# EAGLE library part DAC16 (library 1A-meinLib)
16-Bit High Speed Current-Output DAC, 5mA, 500ns, Analog Devices
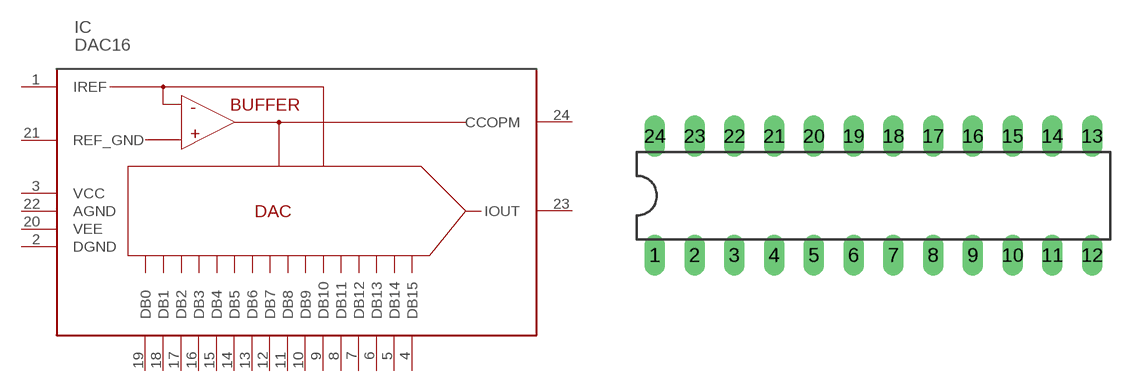
[diagram p76: symbol with the pads of DIL24-3; footprint DIL24-3]

Designator prefix IC

## DAC16  [DIL24-3]
1  IREF
2  DGND
3  VCC
4  DB15
5  DB14
6  DB13
7  DB12
8  DB11
9  DB10
10  DB9
11  DB8
12  DB7
13  DB6
14  DB5
15  DB4
16  DB3
17  DB2
18  DB1
19  DB0
20  VEE
21  REF_GND
22  AGND
23  IOUT
24  CCOPM

## Footprint DIL24-3 (pad centres in mm)
drill 0.813 long: 1 -12.7,-3.81; 2 -10.16,-3.81; 3 -7.62,-3.81; 4 -5.08,-3.81; 5 -2.54,-3.81; 6 0,-3.81; 7 2.54,-3.81; 8 5.08,-3.81; 9 7.62,-3.81; 10 10.16,-3.81; 11 12.7,-3.81; 12 15.24,-3.81; 13 15.24,3.81; 14 12.7,3.81; 15 10.16,3.81; 16 7.62,3.81; 17 5.08,3.81; 18 2.54,3.81; 19 0,3.81; 20 -2.54,3.81; 21 -5.08,3.81; 22 -7.62,3.81; 23 -10.16,3.81; 24 -12.7,3.81